# EAGLE library part HTRAM4 (library Transputers)
HTRAM size-4 Board INMOS Standard Transputer Boards for T9000 series components. Source: INMOS T9000 development Tools Preliminary Datasheets 1993. Arto Kyyhkynen, artoky@dlc.fi
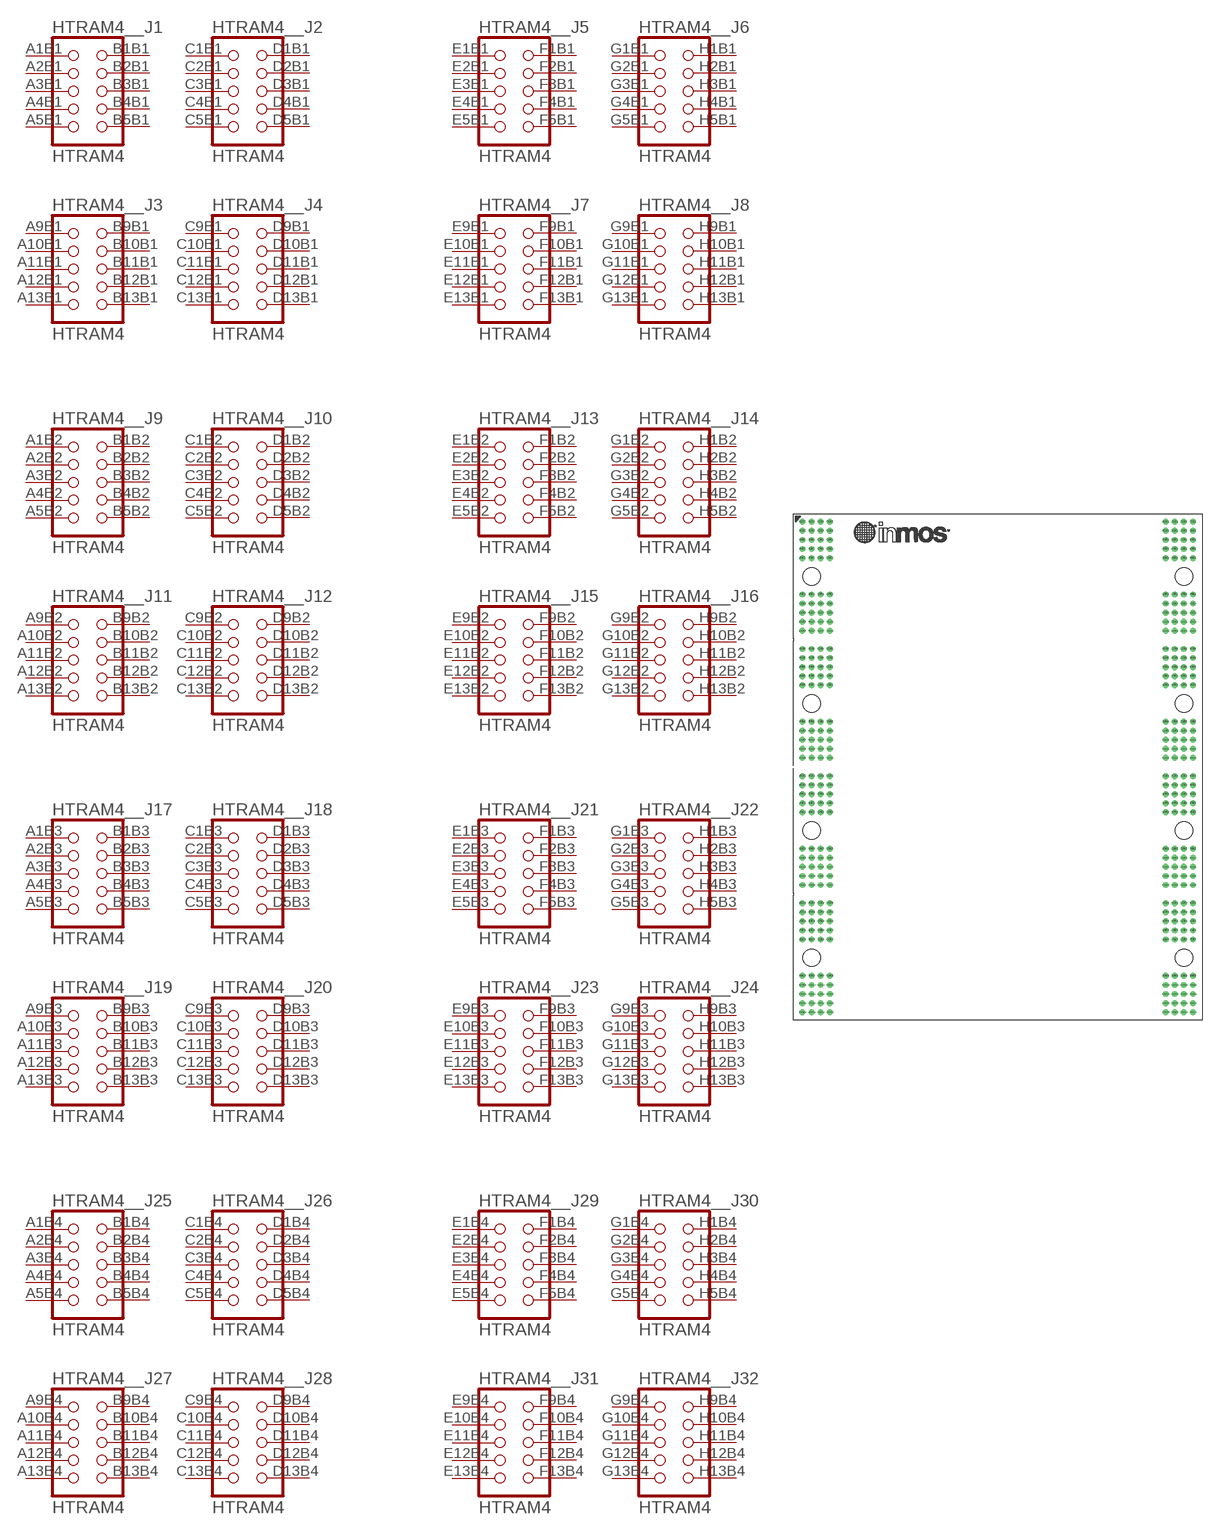
[diagram p21: symbol with the pads of HTRAM-SIZE4; footprint HTRAM-SIZE4]

Designator prefix HTRAM4_; gates _J1=HTRAM_TMM _J2=HTRAM_TMM _J3=HTRAM_TMM _J4=HTRAM_TMM _J5=HTRAM_TMM _J6=HTRAM_TMM _J7=HTRAM_TMM _J8=HTRAM_TMM _J9=HTRAM_TMM _J10=HTRAM_TMM _J11=HTRAM_TMM _J12=HTRAM_TMM _J13=HTRAM_TMM _J14=HTRAM_TMM _J15=HTRAM_TMM _J16=HTRAM_TMM _J17=HTRAM_TMM _J18=HTRAM_TMM _J19=HTRAM_TMM _J20=HTRAM_TMM _J21=HTRAM_TMM _J22=HTRAM_TMM _J23=HTRAM_TMM _J24=HTRAM_TMM _J25=HTRAM_TMM _J26=HTRAM_TMM _J27=HTRAM_TMM _J28=HTRAM_TMM _J29=HTRAM_TMM _J30=HTRAM_TMM _J31=HTRAM_TMM _J32=HTRAM_TMM

## HTRAM4  [HTRAM-SIZE4]
A1B1  _J1:1  pas
A1B2  _J9:1  pas
A1B3  _J17:1  pas
A1B4  _J25:1  pas
A2B1  _J1:3  pas
A2B2  _J9:3  pas
A2B3  _J17:3  pas
A2B4  _J25:3  pas
A3B1  _J1:5  pas
A3B2  _J9:5  pas
A3B3  _J17:5  pas
A3B4  _J25:5  pas
A4B1  _J1:7  pas
A4B2  _J9:7  pas
A4B3  _J17:7  pas
A4B4  _J25:7  pas
A5B1  _J1:9  pas
A5B2  _J9:9  pas
A5B3  _J17:9  pas
A5B4  _J25:9  pas
A9B1  _J3:1  pas
A9B2  _J11:1  pas
A9B3  _J19:1  pas
A9B4  _J27:1  pas
A10B1  _J3:3  pas
A10B2  _J11:3  pas
A10B3  _J19:3  pas
A10B4  _J27:3  pas
A11B1  _J3:5  pas
A11B2  _J11:5  pas
A11B3  _J19:5  pas
A11B4  _J27:5  pas
A12B1  _J3:7  pas
A12B2  _J11:7  pas
A12B3  _J19:7  pas
A12B4  _J27:7  pas
A13B1  _J3:9  pas
A13B2  _J11:9  pas
A13B3  _J19:9  pas
A13B4  _J27:9  pas
B1B1  _J1:2  pas
B1B2  _J9:2  pas
B1B3  _J17:2  pas
B1B4  _J25:2  pas
B2B1  _J1:4  pas
B2B2  _J9:4  pas
B2B3  _J17:4  pas
B2B4  _J25:4  pas
B3B1  _J1:6  pas
B3B2  _J9:6  pas
B3B3  _J17:6  pas
B3B4  _J25:6  pas
B4B1  _J1:8  pas
B4B2  _J9:8  pas
B4B3  _J17:8  pas
B4B4  _J25:8  pas
B5B1  _J1:10  pas
B5B2  _J9:10  pas
B5B3  _J17:10  pas
B5B4  _J25:10  pas
B9B1  _J3:2  pas
B9B2  _J11:2  pas
B9B3  _J19:2  pas
B9B4  _J27:2  pas
B10B1  _J3:4  pas
B10B2  _J11:4  pas
B10B3  _J19:4  pas
B10B4  _J27:4  pas
B11B1  _J3:6  pas
B11B2  _J11:6  pas
B11B3  _J19:6  pas
B11B4  _J27:6  pas
B12B1  _J3:8  pas
B12B2  _J11:8  pas
B12B3  _J19:8  pas
B12B4  _J27:8  pas
B13B1  _J3:10  pas
B13B2  _J11:10  pas
B13B3  _J19:10  pas
B13B4  _J27:10  pas
C1B1  _J2:1  pas
C1B2  _J10:1  pas
C1B3  _J18:1  pas
C1B4  _J26:1  pas
C2B1  _J2:3  pas
C2B2  _J10:3  pas
C2B3  _J18:3  pas
C2B4  _J26:3  pas
C3B1  _J2:5  pas
C3B2  _J10:5  pas
C3B3  _J18:5  pas
C3B4  _J26:5  pas
C4B1  _J2:7  pas
C4B2  _J10:7  pas
C4B3  _J18:7  pas
C4B4  _J26:7  pas
C5B1  _J2:9  pas
C5B2  _J10:9  pas
C5B3  _J18:9  pas
C5B4  _J26:9  pas
C9B1  _J4:1  pas
C9B2  _J12:1  pas
C9B3  _J20:1  pas
C9B4  _J28:1  pas
C10B1  _J4:3  pas
C10B2  _J12:3  pas
C10B3  _J20:3  pas
C10B4  _J28:3  pas
C11B1  _J4:5  pas
C11B2  _J12:5  pas
C11B3  _J20:5  pas
C11B4  _J28:5  pas
C12B1  _J4:7  pas
C12B2  _J12:7  pas
C12B3  _J20:7  pas
C12B4  _J28:7  pas
C13B1  _J4:9  pas
C13B2  _J12:9  pas
C13B3  _J20:9  pas
C13B4  _J28:9  pas
D1B1  _J2:2  pas
D1B2  _J10:2  pas
D1B3  _J18:2  pas
D1B4  _J26:2  pas
D2B1  _J2:4  pas
D2B2  _J10:4  pas
D2B3  _J18:4  pas
D2B4  _J26:4  pas
D3B1  _J2:6  pas
D3B2  _J10:6  pas
D3B3  _J18:6  pas
D3B4  _J26:6  pas
D4B1  _J2:8  pas
D4B2  _J10:8  pas
D4B3  _J18:8  pas
D4B4  _J26:8  pas
D5B1  _J2:10  pas
D5B2  _J10:10  pas
D5B3  _J18:10  pas
D5B4  _J26:10  pas
D9B1  _J4:2  pas
D9B2  _J12:2  pas
D9B3  _J20:2  pas
D9B4  _J28:2  pas
D10B1  _J4:4  pas
D10B2  _J12:4  pas
D10B3  _J20:4  pas
D10B4  _J28:4  pas
D11B1  _J4:6  pas
D11B2  _J12:6  pas
D11B3  _J20:6  pas
D11B4  _J28:6  pas
D12B1  _J4:8  pas
D12B2  _J12:8  pas
D12B3  _J20:8  pas
D12B4  _J28:8  pas
D13B1  _J4:10  pas
D13B2  _J12:10  pas
D13B3  _J20:10  pas
D13B4  _J28:10  pas
E1B1  _J5:1  pas
E1B2  _J13:1  pas
E1B3  _J21:1  pas
E1B4  _J29:1  pas
E2B1  _J5:3  pas
E2B2  _J13:3  pas
E2B3  _J21:3  pas
E2B4  _J29:3  pas
E3B1  _J5:5  pas
E3B2  _J13:5  pas
E3B3  _J21:5  pas
E3B4  _J29:5  pas
E4B1  _J5:7  pas
E4B2  _J13:7  pas
E4B3  _J21:7  pas
E4B4  _J29:7  pas
E5B1  _J5:9  pas
E5B2  _J13:9  pas
E5B3  _J21:9  pas
E5B4  _J29:9  pas
E9B1  _J7:1  pas
E9B2  _J15:1  pas
E9B3  _J23:1  pas
E9B4  _J31:1  pas
E10B1  _J7:3  pas
E10B2  _J15:3  pas
E10B3  _J23:3  pas
E10B4  _J31:3  pas
E11B1  _J7:5  pas
E11B2  _J15:5  pas
E11B3  _J23:5  pas
E11B4  _J31:5  pas
E12B1  _J7:7  pas
E12B2  _J15:7  pas
E12B3  _J23:7  pas
E12B4  _J31:7  pas
E13B1  _J7:9  pas
E13B2  _J15:9  pas
E13B3  _J23:9  pas
E13B4  _J31:9  pas
F1B1  _J5:2  pas
F1B2  _J13:2  pas
F1B3  _J21:2  pas
F1B4  _J29:2  pas
F2B1  _J5:4  pas
F2B2  _J13:4  pas
F2B3  _J21:4  pas
F2B4  _J29:4  pas
F3B1  _J5:6  pas
F3B2  _J13:6  pas
F3B3  _J21:6  pas
F3B4  _J29:6  pas
F4B1  _J5:8  pas
F4B2  _J13:8  pas
F4B3  _J21:8  pas
F4B4  _J29:8  pas
F5B1  _J5:10  pas
F5B2  _J13:10  pas
F5B3  _J21:10  pas
F5B4  _J29:10  pas
F9B1  _J7:2  pas
F9B2  _J15:2  pas
F9B3  _J23:2  pas
F9B4  _J31:2  pas
F10B1  _J7:4  pas
F10B2  _J15:4  pas
F10B3  _J23:4  pas
F10B4  _J31:4  pas
F11B1  _J7:6  pas
F11B2  _J15:6  pas
F11B3  _J23:6  pas
F11B4  _J31:6  pas
F12B1  _J7:8  pas
F12B2  _J15:8  pas
F12B3  _J23:8  pas
F12B4  _J31:8  pas
F13B1  _J7:10  pas
F13B2  _J15:10  pas
F13B3  _J23:10  pas
F13B4  _J31:10  pas
G1B1  _J6:1  pas
G1B2  _J14:1  pas
G1B3  _J22:1  pas
G1B4  _J30:1  pas
G2B1  _J6:3  pas
G2B2  _J14:3  pas
G2B3  _J22:3  pas
G2B4  _J30:3  pas
G3B1  _J6:5  pas
G3B2  _J14:5  pas
G3B3  _J22:5  pas
G3B4  _J30:5  pas
G4B1  _J6:7  pas
G4B2  _J14:7  pas
G4B3  _J22:7  pas
G4B4  _J30:7  pas
G5B1  _J6:9  pas
G5B2  _J14:9  pas
G5B3  _J22:9  pas
G5B4  _J30:9  pas
G9B1  _J8:1  pas
G9B2  _J16:1  pas
G9B3  _J24:1  pas
G9B4  _J32:1  pas
G10B1  _J8:3  pas
G10B2  _J16:3  pas
G10B3  _J24:3  pas
G10B4  _J32:3  pas
G11B1  _J8:5  pas
G11B2  _J16:5  pas
G11B3  _J24:5  pas
G11B4  _J32:5  pas
G12B1  _J8:7  pas
G12B2  _J16:7  pas
G12B3  _J24:7  pas
G12B4  _J32:7  pas
G13B1  _J8:9  pas
G13B2  _J16:9  pas
G13B3  _J24:9  pas
G13B4  _J32:9  pas
H1B1  _J6:2  pas
H1B2  _J14:2  pas
H1B3  _J22:2  pas
H1B4  _J30:2  pas
H2B1  _J6:4  pas
H2B2  _J14:4  pas
H2B3  _J22:4  pas
H2B4  _J30:4  pas
H3B1  _J6:6  pas
H3B2  _J14:6  pas
H3B3  _J22:6  pas
H3B4  _J30:6  pas
H4B1  _J6:8  pas
H4B2  _J14:8  pas
H4B3  _J22:8  pas
H4B4  _J30:8  pas
H5B1  _J6:10  pas
H5B2  _J14:10  pas
H5B3  _J22:10  pas
H5B4  _J30:10  pas
H9B1  _J8:2  pas
H9B2  _J16:2  pas
H9B3  _J24:2  pas
H9B4  _J32:2  pas
H10B1  _J8:4  pas
H10B2  _J16:4  pas
H10B3  _J24:4  pas
H10B4  _J32:4  pas
H11B1  _J8:6  pas
H11B2  _J16:6  pas
H11B3  _J24:6  pas
H11B4  _J32:6  pas
H12B1  _J8:8  pas
H12B2  _J16:8  pas
H12B3  _J24:8  pas
H12B4  _J32:8  pas
H13B1  _J8:10  pas
H13B2  _J16:10  pas
H13B3  _J24:10  pas
H13B4  _J32:10  pas

## Footprint HTRAM-SIZE4 (pad centres in mm)
HTRAM size-4
drill 0.777 round: A1B1 0,0; A1B2 0,-28; A1B3 0,-56; A1B4 0,-84; A2B1 0,-2; A2B2 0,-30; A2B3 0,-58; A2B4 0,-86; A3B1 0,-4; A3B2 0,-32; A3B3 0,-60; A3B4 0,-88; A4B1 0,-6; A4B2 0,-34; A4B3 0,-62; A4B4 0,-90; A5B1 0,-8; A5B2 0,-36; A5B3 0,-64; A5B4 0,-92; A9B1 0,-16; A9B2 0,-44; A9B3 0,-72; A9B4 0,-100; A10B1 0,-18; A10B2 0,-46; A10B3 0,-74; A10B4 0,-102; A11B1 0,-20; A11B2 0,-48; A11B3 0,-76; A11B4 0,-104; A12B1 0,-22; A12B2 0,-50; A12B3 0,-78; A12B4 0,-106; A13B1 0,-24; A13B2 0,-52; A13B3 0,-80; A13B4 0,-108; B1B1 2,0; B1B2 2,-28; B1B3 2,-56; B1B4 2,-84; B2B1 2,-2; B2B2 2,-30; B2B3 2,-58; B2B4 2,-86; B3B1 2,-4; B3B2 2,-32; B3B3 2,-60; B3B4 2,-88; B4B1 2,-6; B4B2 2,-34; B4B3 2,-62; B4B4 2,-90; B5B1 2,-8; B5B2 2,-36; B5B3 2,-64; B5B4 2,-92; B9B1 2,-16; B9B2 2,-44; B9B3 2,-72; B9B4 2,-100; B10B1 2,-18; B10B2 2,-46; B10B3 2,-74; B10B4 2,-102; B11B1 2,-20; B11B2 2,-48; B11B3 2,-76; B11B4 2,-104; B12B1 2,-22; B12B2 2,-50; B12B3 2,-78; B12B4 2,-106; B13B1 2,-24; B13B2 2,-52; B13B3 2,-80; B13B4 2,-108; C1B1 4,0; C1B2 4,-28; C1B3 4,-56; C1B4 4,-84; C2B1 4,-2; C2B2 4,-30; C2B3 4,-58; C2B4 4,-86; C3B1 4,-4; C3B2 4,-32; C3B3 4,-60; C3B4 4,-88; C4B1 4,-6; C4B2 4,-34; C4B3 4,-62; C4B4 4,-90; C5B1 4,-8; C5B2 4,-36; C5B3 4,-64; C5B4 4,-92; C9B1 4,-16; C9B2 4,-44; C9B3 4,-72; C9B4 4,-100; C10B1 4,-18; C10B2 4,-46; C10B3 4,-74; C10B4 4,-102; C11B1 4,-20; C11B2 4,-48; C11B3 4,-76; C11B4 4,-104; C12B1 4,-22; C12B2 4,-50; C12B3 4,-78; C12B4 4,-106; C13B1 4,-24; C13B2 4,-52; C13B3 4,-80; C13B4 4,-108; D1B1 6,0; D1B2 6,-28; D1B3 6,-56; D1B4 6,-84; D2B1 6,-2; D2B2 6,-30; D2B3 6,-58; D2B4 6,-86; D3B1 6,-4; D3B2 6,-32; D3B3 6,-60; D3B4 6,-88; D4B1 6,-6; D4B2 6,-34; D4B3 6,-62; D4B4 6,-90; D5B1 6,-8; D5B2 6,-36; D5B3 6,-64; D5B4 6,-92; D9B1 6,-16; D9B2 6,-44; D9B3 6,-72; D9B4 6,-100; D10B1 6,-18; D10B2 6,-46; D10B3 6,-74; D10B4 6,-102; D11B1 6,-20; D11B2 6,-48; D11B3 6,-76; D11B4 6,-104; D12B1 6,-22; D12B2 6,-50; D12B3 6,-78; D12B4 6,-106; D13B1 6,-24; D13B2 6,-52; D13B3 6,-80; D13B4 6,-108; E1B1 80,0; E1B2 80,-28; E1B3 80,-56; E1B4 80,-84; E2B1 80,-2; E2B2 80,-30; E2B3 80,-58; E2B4 80,-86; E3B1 80,-4; E3B2 80,-32; E3B3 80,-60; E3B4 80,-88; E4B1 80,-6; E4B2 80,-34; E4B3 80,-62; E4B4 80,-90; E5B1 80,-8; E5B2 80,-36; E5B3 80,-64; E5B4 80,-92; E9B1 80,-16; E9B2 80,-44; E9B3 80,-72; E9B4 80,-100; E10B1 80,-18; E10B2 80,-46; E10B3 80,-74; E10B4 80,-102; E11B1 80,-20; E11B2 80,-48; E11B3 80,-76; E11B4 80,-104; E12B1 80,-22; E12B2 80,-50; E12B3 80,-78; E12B4 80,-106; E13B1 80,-24; E13B2 80,-52; E13B3 80,-80; E13B4 80,-108; F1B1 82,0; F1B2 82,-28; F1B3 82,-56; F1B4 82,-84; F2B1 82,-2; F2B2 82,-30; F2B3 82,-58; F2B4 82,-86; F3B1 82,-4; F3B2 82,-32; F3B3 82,-60; F3B4 82,-88; F4B1 82,-6; F4B2 82,-34; F4B3 82,-62; F4B4 82,-90; F5B1 82,-8; F5B2 82,-36; F5B3 82,-64; F5B4 82,-92; F9B1 82,-16; F9B2 82,-44; F9B3 82,-72; F9B4 82,-100; F10B1 82,-18; F10B2 82,-46; F10B3 82,-74; F10B4 82,-102; F11B1 82,-20; F11B2 82,-48; F11B3 82,-76; F11B4 82,-104; F12B1 82,-22; F12B2 82,-50; F12B3 82,-78; F12B4 82,-106; F13B1 82,-24; F13B2 82,-52; F13B3 82,-80; F13B4 82,-108; G1B1 84,0; G1B2 84,-28; G1B3 84,-56; G1B4 84,-84; G2B1 84,-2; G2B2 84,-30; G2B3 84,-58; G2B4 84,-86; G3B1 84,-4; G3B2 84,-32; G3B3 84,-60; G3B4 84,-88; G4B1 84,-6; G4B2 84,-34; G4B3 84,-62; G4B4 84,-90; G5B1 84,-8; G5B2 84,-36; G5B3 84,-64; G5B4 84,-92; G9B1 84,-16; G9B2 84,-44; G9B3 84,-72; G9B4 84,-100; G10B1 84,-18; G10B2 84,-46; G10B3 84,-74; G10B4 84,-102; G11B1 84,-20; G11B2 84,-48; G11B3 84,-76; G11B4 84,-104; G12B1 84,-22; G12B2 84,-50; G12B3 84,-78; G12B4 84,-106; G13B1 84,-24; G13B2 84,-52; G13B3 84,-80; G13B4 84,-108; H1B1 86,0; H1B2 86,-28; H1B3 86,-56; H1B4 86,-84; H2B1 86,-2; H2B2 86,-30; H2B3 86,-58; H2B4 86,-86; H3B1 86,-4; H3B2 86,-32; H3B3 86,-60; H3B4 86,-88; H4B1 86,-6; H4B2 86,-34; H4B3 86,-62; H4B4 86,-90; H5B1 86,-8; H5B2 86,-36; H5B3 86,-64; H5B4 86,-92; H9B1 86,-16; H9B2 86,-44; H9B3 86,-72; H9B4 86,-100; H10B1 86,-18; H10B2 86,-46; H10B3 86,-74; H10B4 86,-102; H11B1 86,-20; H11B2 86,-48; H11B3 86,-76; H11B4 86,-104; H12B1 86,-22; H12B2 86,-50; H12B3 86,-78; H12B4 86,-106; H13B1 86,-24; H13B2 86,-52; H13B3 86,-80; H13B4 86,-108
hole 3.85 at 2,-12
hole 3.85 at 84,-12
hole 3.85 at 2,-40
hole 3.85 at 84,-40
hole 3.85 at 2,-68
hole 3.85 at 84,-68
hole 3.85 at 2,-96
hole 3.85 at 84,-96